# Altium schematic symbol library SN65LVDS.SchLib: 5 symbols
Pins are listed as number, name and electrical type; pins without a type are passive.

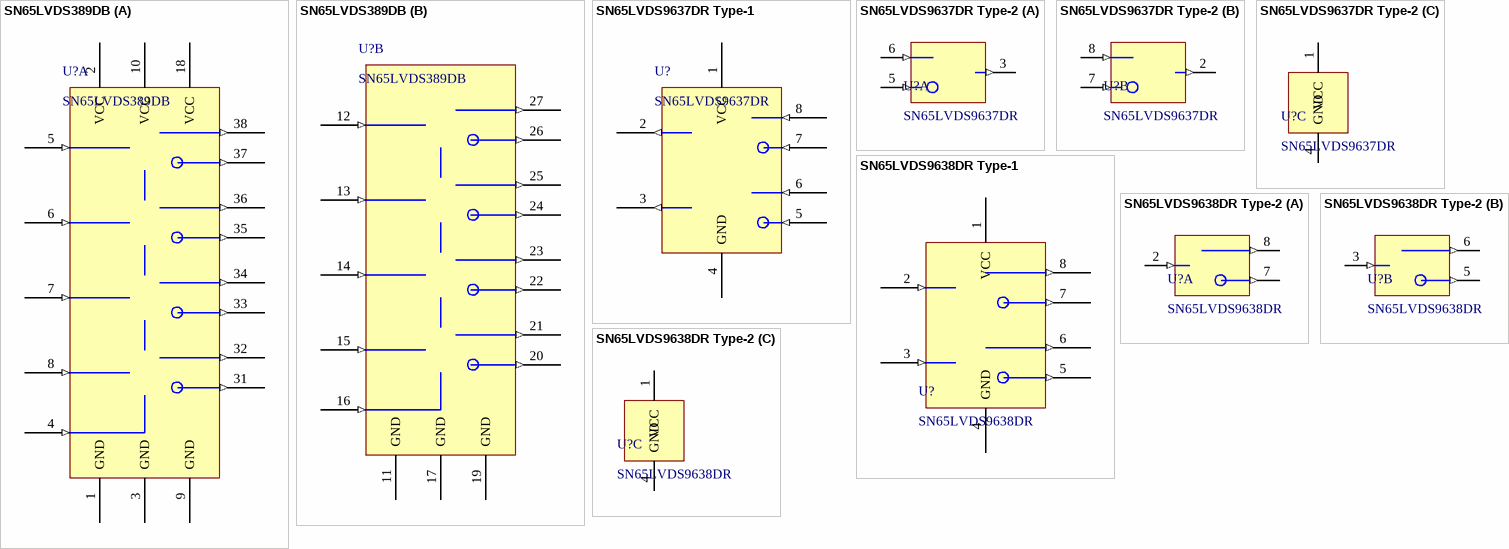
[diagram p0: symbols SN65LVDS389DB to SN65LVDS9638DR Type-2]

## SN65LVDS389DB
designator U?
SN65LVDS - Differential Drivers and Receivers
footprint TSSOP38 - SN65LVDS389DB (SN65LVDS389DB)
part A pins: 1 GND (power), 2 VCC (power), 3 GND (power), 4 ENA (in), 5 A1A (in), 6 A2A (in), 7 A3A (in), 8 A4A (in), 9 GND (power), 10 VCC (power), 18 VCC (power), 31 A4Z (out), 32 A4Y (out), 33 A3Z (out), 34 A3Y (out), 35 A2Z (out), 36 A2Y (out), 37 A1Z (out), 38 A1Y (out)
part B pins: 11 GND (power), 12 B1A (in), 13 B2A (in), 14 B3A (in), 15 B4A (in), 16 ENB (in), 17 GND (power), 19 GND (power), 20 B4Z (out), 21 B4Y (out), 22 B3Z (out), 23 B3Y (out), 24 B2Z (out), 25 B2Y (out), 26 B1Z (out), 27 B1Y (out), 28 NC_1 hidden, 29 NC_2 hidden, 30 NC_3 hidden

## SN65LVDS9637DR Type-1
designator U?, comment SN65LVDS9637DR
SN65LVDS - Differential Drivers and Receivers
footprint SOIC8 - SN65LVDS9637 (SN65LVDS9637)
pins: 1 VCC (power), 2 1Y (out), 3 2Y (out), 4 GND (power), 5 2B (in), 6 2A (in), 7 1B (in), 8 1A (in)

## SN65LVDS9637DR Type-2
designator U?, comment SN65LVDS9637DR
SN65LVDS - Differential Drivers and Receivers
footprint SOIC8 - SN65LVDS9637 (SN65LVDS9637)
part A pins: 3 2Y (out), 5 2B (in), 6 2A (in)
part B pins: 2 1Y (out), 7 1B (in), 8 1A (in)
part C pins: 1 VCC (power), 4 GND (power)

## SN65LVDS9638DR Type-1
designator U?, comment SN65LVDS9638DR
SN65LVDS - Differential Drivers and Receivers
footprint SOIC8 - SN65LVDS9638 (SN65LVDS9638)
pins: 1 VCC (power), 2 1Y (in), 3 2Y (in), 4 GND (power), 5 2B (out), 6 2A (out), 7 1B (out), 8 1A (out)

## SN65LVDS9638DR Type-2
designator U?, comment SN65LVDS9638DR
SN65LVDS - Differential Drivers and Receivers
footprint SOIC8 - SN65LVDS9638 (SN65LVDS9638)
part A pins: 2 1Y (in), 7 1B (out), 8 1A (out)
part B pins: 3 2Y (in), 5 2B (out), 6 2A (out)
part C pins: 1 VCC (power), 4 GND (power)